# EAGLE library part PLD30 (library doz)
15-контактный спаренный разъем. Да здравствует внешний АЦП.
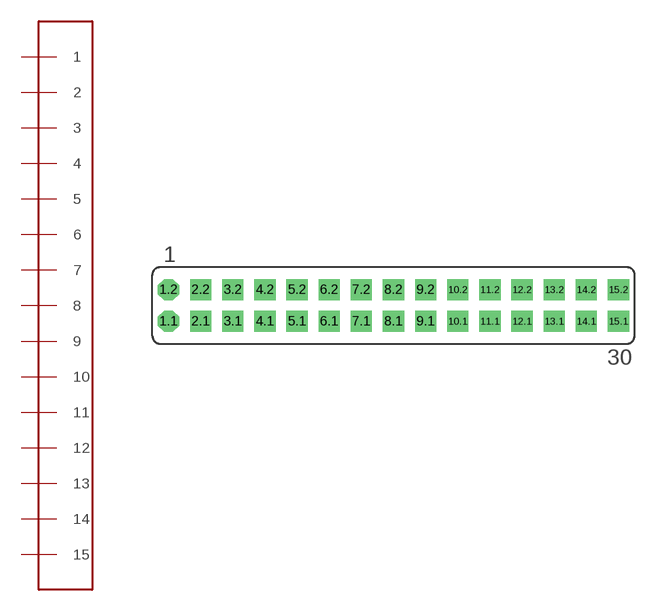
[diagram p16: symbol with the pads of PLD30; footprint PLD30]

Designator prefix XP

## PLD30  [PLD30]
1.1  1
1.2  1
2.1  2
2.2  2
3.1  3
3.2  3
4.1  4
4.2  4
5.1  5
5.2  5
6.1  6
6.2  6
7.1  7
7.2  7
8.1  8
8.2  8
9.1  9
9.2  9
10.1  10
10.2  10
11.1  11
11.2  11
12.1  12
12.2  12
13.1  13
13.2  13
14.1  14
14.2  14
15.1  15
15.2  15

## Footprint PLD30 (pad centres in mm)
drill 1 pad 1.676 octagon: 1.1 -17.78,-1.25; 1.2 -17.78,1.25
drill 1 pad 1.676 square: 2.1 -15.24,-1.25; 2.2 -15.24,1.25; 3.1 -12.7,-1.25; 3.2 -12.7,1.25; 4.1 -10.16,-1.25; 4.2 -10.16,1.25; 5.1 -7.62,-1.25; 5.2 -7.62,1.25; 6.1 -5.08,-1.25; 6.2 -5.08,1.25; 7.1 -2.54,-1.25; 7.2 -2.54,1.25; 8.1 0,-1.25; 8.2 0,1.25; 9.1 2.54,-1.25; 9.2 2.54,1.25; 10.1 5.08,-1.25; 10.2 5.08,1.25; 11.1 7.62,-1.25; 11.2 7.62,1.25; 12.1 10.16,-1.25; 12.2 10.16,1.25; 13.1 12.7,-1.25; 13.2 12.7,1.25; 14.1 15.24,-1.25; 14.2 15.24,1.25; 15.1 17.78,-1.25; 15.2 17.78,1.25